# Altium integrated library CDE_Library.IntLib: 6171 symbols (part 13 of 25)
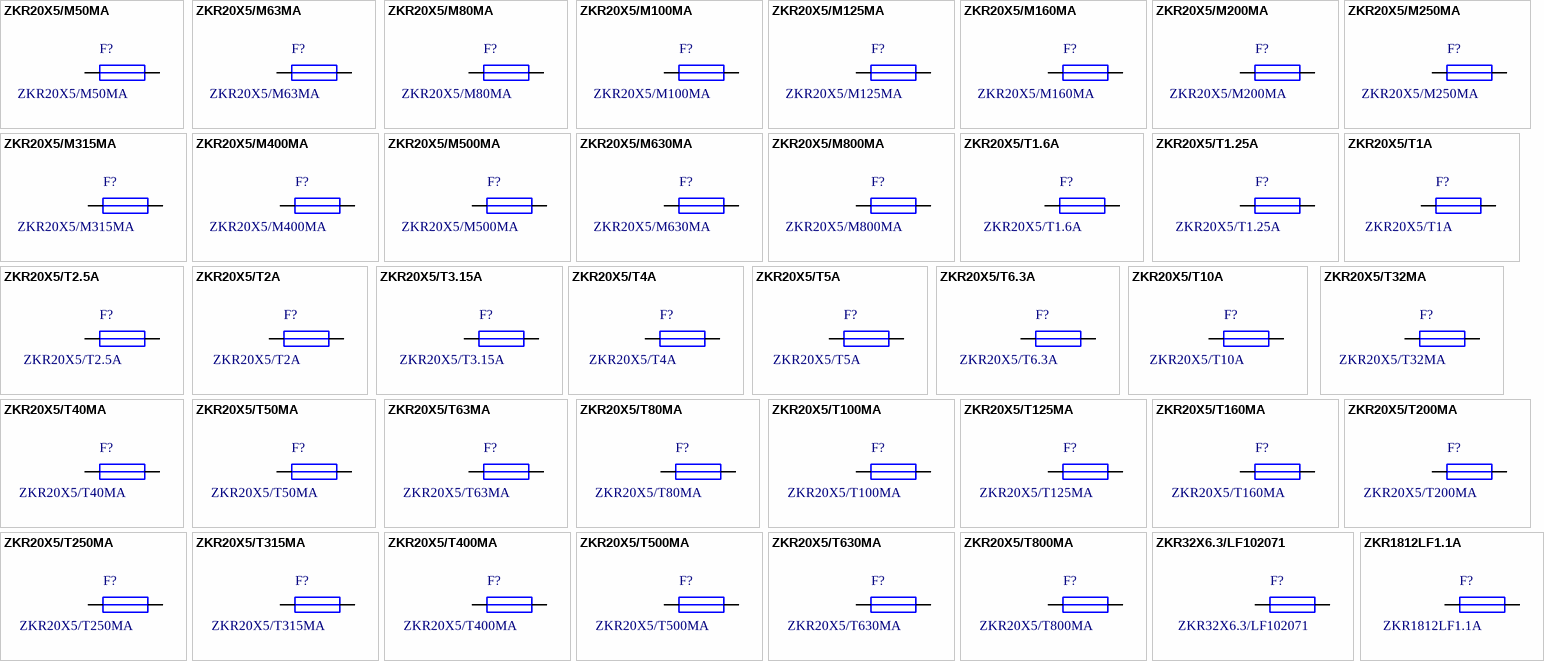
[diagram p269: symbols ZKR20X5/M50MA to ZKR1812LF1.1A]

## ZKR20X5/T50MA
designator F?
zekering 20x5mm, houder uit één stuk, T50mA; Part Number: ZKR20X5/T50MA; Component Kind: Standard; Component Type: Standard; Designator: ZKR20X5/T50MA; Footprint: zkr 20x5; Library Reference: ZKR20X5/T50MA; Pin Count: 2
footprint zkr 20x5
pins: 1, 2

## ZKR20X5/T63MA
designator F?
zekering 20x5mm, houder uit één stuk, T63mA; Part Number: ZKR20X5/T63MA; Component Kind: Standard; Component Type: Standard; Designator: ZKR20X5/T63MA; Footprint: zkr 20x5; Library Reference: ZKR20X5/T63MA; Pin Count: 2
footprint zkr 20x5
pins: 1, 2

## ZKR20X5/T80MA
designator F?
zekering 20x5mm, houder uit één stuk, T80mA; Part Number: ZKR20X5/T80MA; Component Kind: Standard; Component Type: Standard; Designator: ZKR20X5/T80MA; Footprint: zkr 20x5; Library Reference: ZKR20X5/T80MA; Pin Count: 2
footprint zkr 20x5
pins: 1, 2

## ZKR20X5/T100MA
designator F?
zekering 20x5mm, houder uit één stuk, T100mA; Part Number: ZKR20X5/T100MA; Component Kind: Standard; Component Type: Standard; Designator: ZKR20X5/T100MA; Footprint: zkr 20x5; Library Reference: ZKR20X5/T100MA; Pin Count: 2
footprint zkr 20x5
pins: 1, 2

## ZKR20X5/T125MA
designator F?
zekering 20x5mm, houder uit één stuk, T125mA; Part Number: ZKR20X5/T125MA; Component Kind: Standard; Component Type: Standard; Designator: ZKR20X5/T125MA; Footprint: zkr 20x5; Library Reference: ZKR20X5/T125MA; Pin Count: 2
footprint zkr 20x5
pins: 1, 2

## ZKR20X5/T160MA
designator F?
zekering 20x5mm, houder uit één stuk, T160mA; Part Number: ZKR20X5/T160MA; Component Kind: Standard; Component Type: Standard; Designator: ZKR20X5/T160MA; Footprint: zkr 20x5; Library Reference: ZKR20X5/T160MA; Pin Count: 2
footprint zkr 20x5
pins: 1, 2

## ZKR20X5/T200MA
designator F?
zekering 20x5mm, houder uit één stuk, T200mA; Part Number: ZKR20X5/T200MA; Component Kind: Standard; Component Type: Standard; Designator: ZKR20X5/T200MA; Footprint: zkr 20x5; Library Reference: ZKR20X5/T200MA; Pin Count: 2
footprint zkr 20x5
pins: 1, 2

## ZKR20X5/T250MA
designator F?
zekering 20x5mm, houder uit één stuk, T250mA; Part Number: ZKR20X5/T250MA; Component Kind: Standard; Component Type: Standard; Designator: ZKR20X5/T250MA; Footprint: zkr 20x5; Library Reference: ZKR20X5/T250MA; Pin Count: 2
footprint zkr 20x5
pins: 1, 2

## ZKR20X5/T315MA
designator F?
zekering 20x5mm, houder uit één stuk, T315mA; Part Number: ZKR20X5/T315MA; Component Kind: Standard; Component Type: Standard; Designator: ZKR20X5/T315MA; Footprint: zkr 20x5; Library Reference: ZKR20X5/T315MA; Pin Count: 2
footprint zkr 20x5
pins: 1, 2

## ZKR20X5/T400MA
designator F?
zekering 20x5mm, houder uit één stuk, T400mA; Part Number: ZKR20X5/T400MA; Component Kind: Standard; Component Type: Standard; Designator: ZKR20X5/T400MA; Footprint: zkr 20x5; Library Reference: ZKR20X5/T400MA; Pin Count: 2
footprint zkr 20x5
pins: 1, 2

## ZKR20X5/T500MA
designator F?
zekering 20x5mm, houder uit één stuk, T500mA; Part Number: ZKR20X5/T500MA; Component Kind: Standard; Component Type: Standard; Designator: ZKR20X5/T500MA; Footprint: zkr 20x5; Library Reference: ZKR20X5/T500MA; Pin Count: 2
footprint zkr 20x5
pins: 1, 2

## ZKR20X5/T630MA
designator F?
zekering 20x5mm, houder uit één stuk, T630mA; Part Number: ZKR20X5/T630MA; Component Kind: Standard; Component Type: Standard; Designator: ZKR20X5/T630MA; Footprint: zkr 20x5; Library Reference: ZKR20X5/T630MA; Pin Count: 2
footprint zkr 20x5
pins: 1, 2

## ZKR20X5/T800MA
designator F?
zekering 20x5mm, houder uit één stuk, T800mA; Part Number: ZKR20X5/T800MA; Component Kind: Standard; Component Type: Standard; Designator: ZKR20X5/T800MA; Footprint: zkr 20x5; Library Reference: ZKR20X5/T800MA; Pin Count: 2
footprint zkr 20x5
pins: 1, 2

## ZKR32X6.3/LF102071
designator F?
zekering 32x6.3, 2-delige houder, Littlefuse Clip 102071
footprint zkr 32x6.3 (Littlefuse 102071)
pins: 1, 2

## ZKR1812LF1.1A
designator F?
Littlefuse 1812 PTC 1.1A holding current; Part Number: ZKR1812LF1.1A; Component Kind: Standard; Component Type: Standard; Designator: ZKR1812LF1.1A; Footprint: smd C1812; Library Reference: ZKR1812LF1.1A; Pin Count: 2
footprint smd C1812
pins: 1, 2

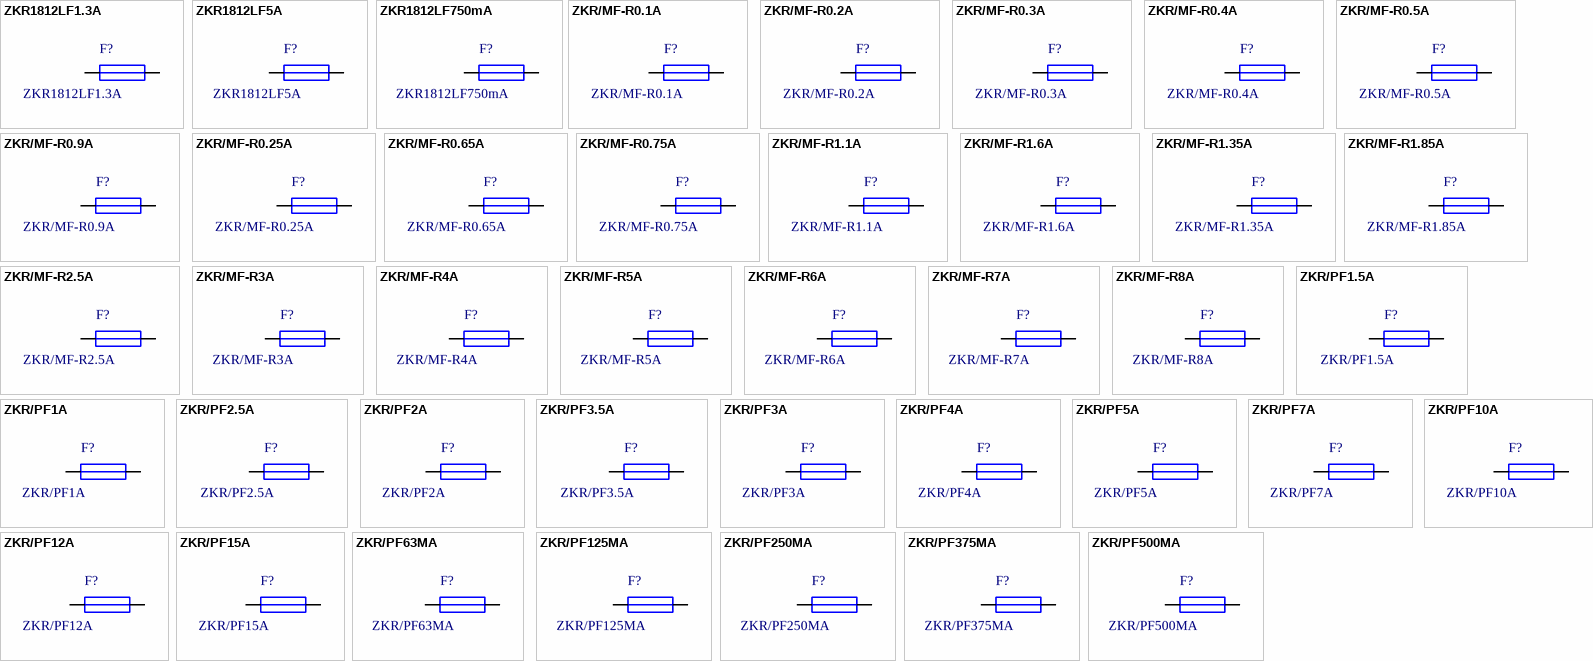
[diagram p130: symbols ZKR1812LF1.3A to ZKR/PF500MA]

## ZKR1812LF1.3A
designator F?
Littlefuse 1812 PTC 750mA holding current; Part Number: ZKR1812LF1.3A; Component Kind: Standard; Component Type: Standard; Designator: ZKR1812LF1.3A; Footprint: smd C1812; Library Reference: ZKR1812LF1.3A; Pin Count: 2
footprint smd C1812
pins: 1, 2

## ZKR1812LF5A
designator F?
Littlefuse 1812 PTC 5A holding current; Part Number: ZKR1812LF5A; Component Kind: Standard; Component Type: Standard; Designator: ZKR1812LF5A; Footprint: smd C1812; Library Reference: ZKR1812LF5A; Pin Count: 2
footprint smd C1812
pins: 1, 2

## ZKR1812LF750mA
designator F?
Littlefuse 1812 PTC 750mA holding current
footprint smd C1812
pins: 1, 2

## ZKR/MF-R0.1A
designator F?
zekering zelfherstellend, Multifuse Bourns MF-R010
footprint zkr multifuse (Bourns MF-R)
pins: 1, 2

## ZKR/MF-R0.2A
designator F?
zekering zelfherstellend, Multifuse Bourns MF-R020; Part Number: ZKR/MF-R0.2A; Component Kind: Standard; Component Type: Standard; Designator: ZKR/MF-R0.2A; Footprint: zkr multifuse (Bourns MF-R); Library Reference: ZKR/MF-R0.2A; Pin Count: 2
footprint zkr multifuse (Bourns MF-R)
pins: 1, 2

## ZKR/MF-R0.3A
designator F?
zekering zelfherstellend, Multifuse Bourns MF-R030; Part Number: ZKR/MF-R0.3A; Component Kind: Standard; Component Type: Standard; Designator: ZKR/MF-R0.3A; Footprint: zkr multifuse (Bourns MF-R); Library Reference: ZKR/MF-R0.3A; Pin Count: 2
footprint zkr multifuse (Bourns MF-R)
pins: 1, 2

## ZKR/MF-R0.4A
designator F?
zekering zelfherstellend, Multifuse Bourns MF-R040; Part Number: ZKR/MF-R0.4A; Component Kind: Standard; Component Type: Standard; Designator: ZKR/MF-R0.4A; Footprint: zkr multifuse (Bourns MF-R); Library Reference: ZKR/MF-R0.4A; Pin Count: 2
footprint zkr multifuse (Bourns MF-R)
pins: 1, 2

## ZKR/MF-R0.5A
designator F?
zekering zelfherstellend, Multifuse Bourns MF-R050; Part Number: ZKR/MF-R0.5A; Component Kind: Standard; Component Type: Standard; Designator: ZKR/MF-R0.5A; Footprint: zkr multifuse (Bourns MF-R); Library Reference: ZKR/MF-R0.5A; Pin Count: 2
footprint zkr multifuse (Bourns MF-R)
pins: 1, 2

## ZKR/MF-R0.9A
designator F?
zekering zelfherstellend, Multifuse Bourns MF-R090; Part Number: ZKR/MF-R0.9A; Component Kind: Standard; Component Type: Standard; Designator: ZKR/MF-R0.9A; Footprint: zkr multifuse (Bourns MF-R); Library Reference: ZKR/MF-R0.9A; Pin Count: 2
footprint zkr multifuse (Bourns MF-R)
pins: 1, 2

## ZKR/MF-R0.25A
designator F?
zekering zelfherstellend, Multifuse Bourns MF-R025; Part Number: ZKR/MF-R0.25A; Component Kind: Standard; Component Type: Standard; Designator: ZKR/MF-R0.25A; Footprint: zkr multifuse (Bourns MF-R); Library Reference: ZKR/MF-R0.25A; Pin Count: 2
footprint zkr multifuse (Bourns MF-R)
pins: 1, 2

## ZKR/MF-R0.65A
designator F?
zekering zelfherstellend, Multifuse Bourns MF-R065; Part Number: ZKR/MF-R0.65A; Component Kind: Standard; Component Type: Standard; Designator: ZKR/MF-R0.65A; Footprint: zkr multifuse (Bourns MF-R); Library Reference: ZKR/MF-R0.65A; Pin Count: 2
footprint zkr multifuse (Bourns MF-R)
pins: 1, 2

## ZKR/MF-R0.75A
designator F?
zekering zelfherstellend, Multifuse Bourns MF-R075; Part Number: ZKR/MF-R0.75A; Component Kind: Standard; Component Type: Standard; Designator: ZKR/MF-R0.75A; Footprint: zkr multifuse (Bourns MF-R); Library Reference: ZKR/MF-R0.75A; Pin Count: 2
footprint zkr multifuse (Bourns MF-R)
pins: 1, 2

## ZKR/MF-R1.1A
designator F?
zekering zelfherstellend, Multifuse Bourns MF-R110; Part Number: ZKR/MF-R1.1A; Component Kind: Standard; Component Type: Standard; Designator: ZKR/MF-R1.1A; Footprint: zkr multifuse (Bourns MF-R); Library Reference: ZKR/MF-R1.1A; Pin Count: 2
footprint zkr multifuse (Bourns MF-R)
pins: 1, 2

## ZKR/MF-R1.6A
designator F?
zekering zelfherstellend, Multifuse Bourns MF-R160; Part Number: ZKR/MF-R1.6A; Component Kind: Standard; Component Type: Standard; Designator: ZKR/MF-R1.6A; Footprint: zkr multifuse (Bourns MF-R); Library Reference: ZKR/MF-R1.6A; Pin Count: 2
footprint zkr multifuse (Bourns MF-R)
pins: 1, 2

## ZKR/MF-R1.35A
designator F?
zekering zelfherstellend, Multifuse Bourns MF-R135; Part Number: ZKR/MF-R1.35A; Component Kind: Standard; Component Type: Standard; Designator: ZKR/MF-R1.35A; Footprint: zkr multifuse (Bourns MF-R); Library Reference: ZKR/MF-R1.35A; Pin Count: 2
footprint zkr multifuse (Bourns MF-R)
pins: 1, 2

## ZKR/MF-R1.85A
designator F?
zekering zelfherstellend, Multifuse Bourns MF-R185; Part Number: ZKR/MF-R1.85A; Component Kind: Standard; Component Type: Standard; Designator: ZKR/MF-R1.85A; Footprint: zkr multifuse (Bourns MF-R); Library Reference: ZKR/MF-R1.85A; Pin Count: 2
footprint zkr multifuse (Bourns MF-R)
pins: 1, 2

## ZKR/MF-R2.5A
designator F?
zekering zelfherstellend, Multifuse Bourns MF-R250; Part Number: ZKR/MF-R2.5A; Component Kind: Standard; Component Type: Standard; Designator: ZKR/MF-R2.5A; Footprint: zkr multifuse (Bourns MF-R); Library Reference: ZKR/MF-R2.5A; Pin Count: 2
footprint zkr multifuse (Bourns MF-R)
pins: 1, 2

## ZKR/MF-R3A
designator F?
zekering zelfherstellend, Multifuse Bourns MF-R300; Part Number: ZKR/MF-R3A; Component Kind: Standard; Component Type: Standard; Designator: ZKR/MF-R3A; Footprint: zkr multifuse (Bourns MF-R); Library Reference: ZKR/MF-R3A; Pin Count: 2
footprint zkr multifuse (Bourns MF-R)
pins: 1, 2

## ZKR/MF-R4A
designator F?
zekering zelfherstellend, Multifuse Bourns MF-R400; Part Number: ZKR/MF-R4A; Component Kind: Standard; Component Type: Standard; Designator: ZKR/MF-R4A; Footprint: zkr multifuse (Bourns MF-R); Library Reference: ZKR/MF-R4A; Pin Count: 2
footprint zkr multifuse (Bourns MF-R)
pins: 1, 2

## ZKR/MF-R5A
designator F?
zekering zelfherstellend, Multifuse Bourns MF-R500; Part Number: ZKR/MF-R5A; Component Kind: Standard; Component Type: Standard; Designator: ZKR/MF-R5A; Footprint: zkr multifuse (Bourns MF-R); Library Reference: ZKR/MF-R5A; Pin Count: 2
footprint zkr multifuse (Bourns MF-R)
pins: 1, 2

## ZKR/MF-R6A
designator F?
zekering zelfherstellend, Multifuse Bourns MF-R600; Part Number: ZKR/MF-R6A; Component Kind: Standard; Component Type: Standard; Designator: ZKR/MF-R6A; Footprint: zkr multifuse (Bourns MF-R); Library Reference: ZKR/MF-R6A; Pin Count: 2
footprint zkr multifuse (Bourns MF-R)
pins: 1, 2

## ZKR/MF-R7A
designator F?
zekering zelfherstellend, Multifuse Bourns MF-R700; Part Number: ZKR/MF-R7A; Component Kind: Standard; Component Type: Standard; Designator: ZKR/MF-R7A; Footprint: zkr multifuse (Bourns MF-R); Library Reference: ZKR/MF-R7A; Pin Count: 2
footprint zkr multifuse (Bourns MF-R)
pins: 1, 2

## ZKR/MF-R8A
designator F?
zekering zelfherstellend, Multifuse Bourns MF-R800; Part Number: ZKR/MF-R8A; Component Kind: Standard; Component Type: Standard; Designator: ZKR/MF-R8A; Footprint: zkr multifuse (Bourns MF-R); Library Reference: ZKR/MF-R8A; Pin Count: 2
footprint zkr multifuse (Bourns MF-R)
pins: 1, 2

## ZKR/PF1.5A
designator F?
zekering subminiature, Wickmann picofuse 275, 1.5A; Part Number: ZKR/PF1.5A; Component Kind: Standard; Component Type: Standard; Designator: ZKR/PF1.5A; Footprint: zkr submin (Wickmann picofuse); Library Reference: ZKR/PF1.5A; Pin Count: 2
footprint zkr submin (Wickmann picofuse)
pins: 1, 2

## ZKR/PF1A
designator F?
zekering subminiature, Wickmann picofuse 275, 1A; Part Number: ZKR/PF1A; Component Kind: Standard; Component Type: Standard; Designator: ZKR/PF1A; Footprint: zkr submin (Wickmann picofuse); Library Reference: ZKR/PF1A; Pin Count: 2
footprint zkr submin (Wickmann picofuse)
pins: 1, 2

## ZKR/PF2.5A
designator F?
zekering subminiature, Wickmann picofuse 275, 2.5A; Part Number: ZKR/PF2.5A; Component Kind: Standard; Component Type: Standard; Designator: ZKR/PF2.5A; Footprint: zkr submin (Wickmann picofuse); Library Reference: ZKR/PF2.5A; Pin Count: 2
footprint zkr submin (Wickmann picofuse)
pins: 1, 2

## ZKR/PF2A
designator F?
zekering subminiature, Wickmann picofuse 275, 2A; Part Number: ZKR/PF2A; Component Kind: Standard; Component Type: Standard; Designator: ZKR/PF2A; Footprint: zkr submin (Wickmann picofuse); Library Reference: ZKR/PF2A; Pin Count: 2
footprint zkr submin (Wickmann picofuse)
pins: 1, 2

## ZKR/PF3.5A
designator F?
zekering subminiature, Wickmann picofuse 275, 3.5A; Part Number: ZKR/PF3.5A; Component Kind: Standard; Component Type: Standard; Designator: ZKR/PF3.5A; Footprint: zkr submin (Wickmann picofuse); Library Reference: ZKR/PF3.5A; Pin Count: 2
footprint zkr submin (Wickmann picofuse)
pins: 1, 2

## ZKR/PF3A
designator F?
zekering subminiature, Wickmann picofuse 275, 3A; Part Number: ZKR/PF3A; Component Kind: Standard; Component Type: Standard; Designator: ZKR/PF3A; Footprint: zkr submin (Wickmann picofuse); Library Reference: ZKR/PF3A; Pin Count: 2
footprint zkr submin (Wickmann picofuse)
pins: 1, 2

## ZKR/PF4A
designator F?
zekering subminiature, Wickmann picofuse 275, 4A; Part Number: ZKR/PF4A; Component Kind: Standard; Component Type: Standard; Designator: ZKR/PF4A; Footprint: zkr submin (Wickmann picofuse); Library Reference: ZKR/PF4A; Pin Count: 2
footprint zkr submin (Wickmann picofuse)
pins: 1, 2

## ZKR/PF5A
designator F?
zekering subminiature, Wickmann picofuse 275, 5A; Part Number: ZKR/PF5A; Component Kind: Standard; Component Type: Standard; Designator: ZKR/PF5A; Footprint: zkr submin (Wickmann picofuse); Library Reference: ZKR/PF5A; Pin Count: 2
footprint zkr submin (Wickmann picofuse)
pins: 1, 2

## ZKR/PF7A
designator F?
zekering subminiature, Wickmann picofuse 275, 7A; Part Number: ZKR/PF7A; Component Kind: Standard; Component Type: Standard; Designator: ZKR/PF7A; Footprint: zkr submin (Wickmann picofuse); Library Reference: ZKR/PF7A; Pin Count: 2
footprint zkr submin (Wickmann picofuse)
pins: 1, 2

## ZKR/PF10A
designator F?
zekering subminiature, Wickmann picofuse 275, 10A; Part Number: ZKR/PF10A; Component Kind: Standard; Component Type: Standard; Designator: ZKR/PF10A; Footprint: zkr submin (Wickmann picofuse); Library Reference: ZKR/PF10A; Pin Count: 2
footprint zkr submin (Wickmann picofuse)
pins: 1, 2

## ZKR/PF12A
designator F?
zekering subminiature, Wickmann picofuse 275, 12A; Part Number: ZKR/PF12A; Component Kind: Standard; Component Type: Standard; Designator: ZKR/PF12A; Footprint: zkr submin (Wickmann picofuse); Library Reference: ZKR/PF12A; Pin Count: 2
footprint zkr submin (Wickmann picofuse)
pins: 1, 2

## ZKR/PF15A
designator F?
zekering subminiature, Wickmann picofuse 275, 15A; Part Number: ZKR/PF15A; Component Kind: Standard; Component Type: Standard; Designator: ZKR/PF15A; Footprint: zkr submin (Wickmann picofuse); Library Reference: ZKR/PF15A; Pin Count: 2
footprint zkr submin (Wickmann picofuse)
pins: 1, 2

## ZKR/PF63MA
designator F?
zekering subminiature, Wickmann picofuse 275, 63mA
footprint zkr submin (Wickmann picofuse)
pins: 1, 2

## ZKR/PF125MA
designator F?
zekering subminiature, Wickmann picofuse 275, 125mA; Part Number: ZKR/PF125MA; Component Kind: Standard; Component Type: Standard; Designator: ZKR/PF125MA; Footprint: zkr submin (Wickmann picofuse); Library Reference: ZKR/PF125MA; Pin Count: 2
footprint zkr submin (Wickmann picofuse)
pins: 1, 2

## ZKR/PF250MA
designator F?
zekering subminiature, Wickmann picofuse 275, 250mA; Part Number: ZKR/PF250MA; Component Kind: Standard; Component Type: Standard; Designator: ZKR/PF250MA; Footprint: zkr submin (Wickmann picofuse); Library Reference: ZKR/PF250MA; Pin Count: 2
footprint zkr submin (Wickmann picofuse)
pins: 1, 2

## ZKR/PF375MA
designator F?
zekering subminiature, Wickmann picofuse 275, 375mA; Part Number: ZKR/PF375MA; Component Kind: Standard; Component Type: Standard; Designator: ZKR/PF375MA; Footprint: zkr submin (Wickmann picofuse); Library Reference: ZKR/PF375MA; Pin Count: 2
footprint zkr submin (Wickmann picofuse)
pins: 1, 2

## ZKR/PF500MA
designator F?
zekering subminiature, Wickmann picofuse 275, 500mA; Part Number: ZKR/PF500MA; Component Kind: Standard; Component Type: Standard; Designator: ZKR/PF500MA; Footprint: zkr submin (Wickmann picofuse); Library Reference: ZKR/PF500MA; Pin Count: 2
footprint zkr submin (Wickmann picofuse)
pins: 1, 2

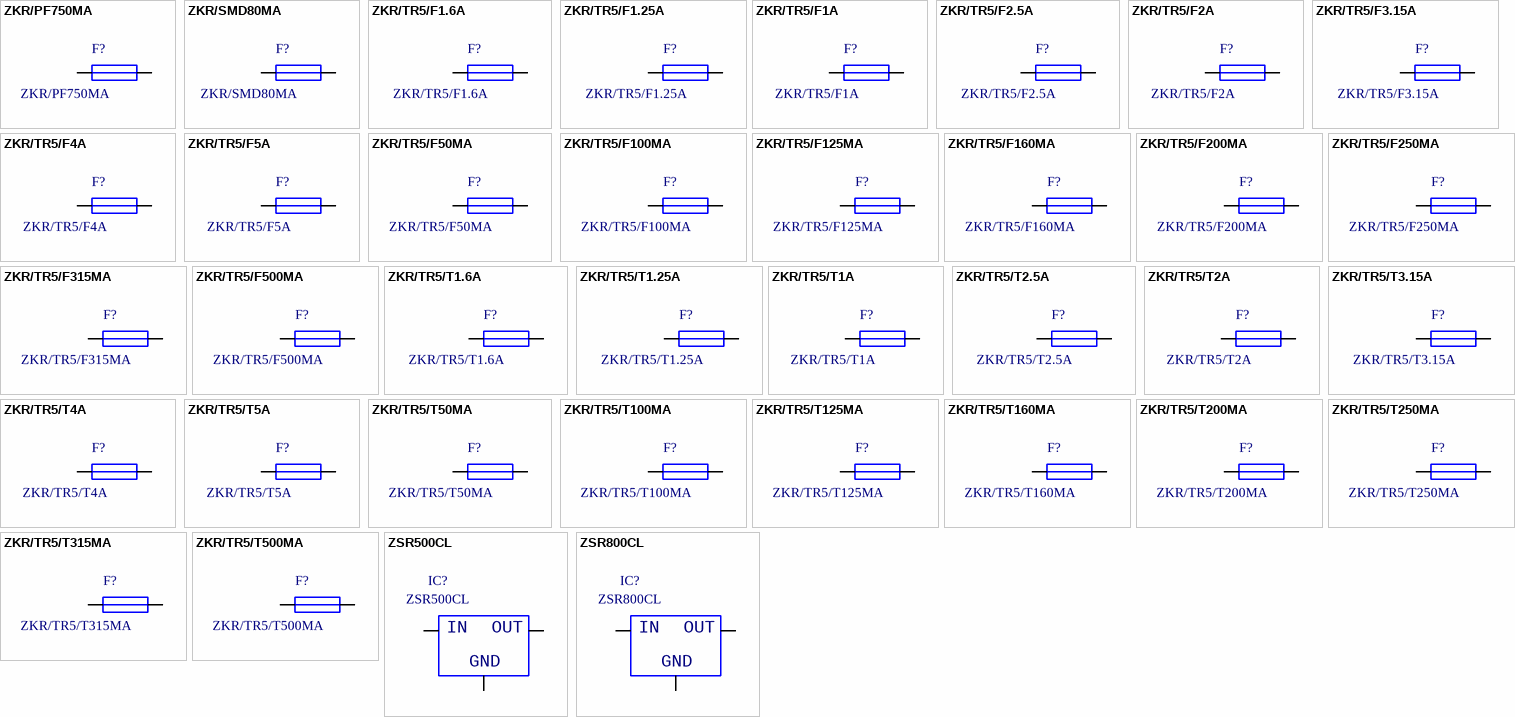
[diagram p131: symbols ZKR/PF750MA to ZSR800CL]

## ZKR/PF750MA
designator F?
zekering subminiature, Wickmann picofuse 275, 750mA; Part Number: ZKR/PF750MA; Component Kind: Standard; Component Type: Standard; Designator: ZKR/PF750MA; Footprint: zkr submin (Wickmann picofuse); Library Reference: ZKR/PF750MA; Pin Count: 2
footprint zkr submin (Wickmann picofuse)
pins: 1, 2

## ZKR/SMD80MA
designator F?
zekering smd, Shurter UMZ 250, 80mA; Part Number: ZKR/PF1A; Component Kind: Standard; Component Type: Standard; Designator: ZKR/PF1A; Footprint: zkr submin (Wickmann picofuse); Library Reference: ZKR/PF1A; Pin Count: 2
footprint ZKR/SMD UMZ250 (Zekering Schurter UMZ 250)
pins: 1, 2

## ZKR/TR5/F1.6A
designator F?
zekering subminiature, TR5 verpakking, F1.6A; Part Number: ZKR/TR5/F1.6A; Component Kind: Standard; Component Type: Standard; Designator: ZKR/TR5/F1.6A; Footprint: zkr submin (TR5); Library Reference: ZKR/TR5/F1.6A; Pin Count: 2
footprint zkr submin (TR5)
pins: 1, 2

## ZKR/TR5/F1.25A
designator F?
zekering subminiature, TR5 verpakking, F1.25A; Part Number: ZKR/TR5/F1.25A; Component Kind: Standard; Component Type: Standard; Designator: ZKR/TR5/F1.25A; Footprint: zkr submin (TR5); Library Reference: ZKR/TR5/F1.25A; Pin Count: 2
footprint zkr submin (TR5)
pins: 1, 2

## ZKR/TR5/F1A
designator F?
zekering subminiature, TR5 verpakking, F1A; Part Number: ZKR/TR5/F1A; Component Kind: Standard; Component Type: Standard; Designator: ZKR/TR5/F1A; Footprint: zkr submin (TR5); Library Reference: ZKR/TR5/F1A; Pin Count: 2
footprint zkr submin (TR5)
pins: 1, 2

## ZKR/TR5/F2.5A
designator F?
zekering subminiature, TR5 verpakking, F2.5A; Part Number: ZKR/TR5/F2.5A; Component Kind: Standard; Component Type: Standard; Designator: ZKR/TR5/F2.5A; Footprint: zkr submin (TR5); Library Reference: ZKR/TR5/F2.5A; Pin Count: 2
footprint zkr submin (TR5)
pins: 1, 2

## ZKR/TR5/F2A
designator F?
zekering subminiature, TR5 verpakking, F2A; Part Number: ZKR/TR5/F2A; Component Kind: Standard; Component Type: Standard; Designator: ZKR/TR5/F2A; Footprint: zkr submin (TR5); Library Reference: ZKR/TR5/F2A; Pin Count: 2
footprint zkr submin (TR5)
pins: 1, 2

## ZKR/TR5/F3.15A
designator F?
zekering subminiature, TR5 verpakking, F3.15A; Part Number: ZKR/TR5/F3.15A; Component Kind: Standard; Component Type: Standard; Designator: ZKR/TR5/F3.15A; Footprint: zkr submin (TR5); Library Reference: ZKR/TR5/F3.15A; Pin Count: 2
footprint zkr submin (TR5)
pins: 1, 2

## ZKR/TR5/F4A
designator F?
zekering subminiature, TR5 verpakking, F4A; Part Number: ZKR/TR5/F4A; Component Kind: Standard; Component Type: Standard; Designator: ZKR/TR5/F4A; Footprint: zkr submin (TR5); Library Reference: ZKR/TR5/F4A; Pin Count: 2
footprint zkr submin (TR5)
pins: 1, 2

## ZKR/TR5/F5A
designator F?
zekering subminiature, TR5 verpakking, F5A; Part Number: ZKR/TR5/F5A; Component Kind: Standard; Component Type: Standard; Designator: ZKR/TR5/F5A; Footprint: zkr submin (TR5); Library Reference: ZKR/TR5/F5A; Pin Count: 2
footprint zkr submin (TR5)
pins: 1, 2

## ZKR/TR5/F50MA
designator F?
zekering subminiature, TR5 verpakking, F50mA
footprint zkr submin (TR5)
pins: 1, 2

## ZKR/TR5/F100MA
designator F?
zekering subminiature, TR5 verpakking, F100mA; Part Number: ZKR/TR5/F100MA; Component Kind: Standard; Component Type: Standard; Designator: ZKR/TR5/F100MA; Footprint: zkr submin (TR5); Library Reference: ZKR/TR5/F100MA; Pin Count: 2
footprint zkr submin (TR5)
pins: 1, 2

## ZKR/TR5/F125MA
designator F?
zekering subminiature, TR5 verpakking, F125mA; Part Number: ZKR/TR5/F125MA; Component Kind: Standard; Component Type: Standard; Designator: ZKR/TR5/F125MA; Footprint: zkr submin (TR5); Library Reference: ZKR/TR5/F125MA; Pin Count: 2
footprint zkr submin (TR5)
pins: 1, 2

## ZKR/TR5/F160MA
designator F?
zekering subminiature, TR5 verpakking, F160mA; Part Number: ZKR/TR5/F160MA; Component Kind: Standard; Component Type: Standard; Designator: ZKR/TR5/F160MA; Footprint: zkr submin (TR5); Library Reference: ZKR/TR5/F160MA; Pin Count: 2
footprint zkr submin (TR5)
pins: 1, 2

## ZKR/TR5/F200MA
designator F?
zekering subminiature, TR5 verpakking, F200mA; Part Number: ZKR/TR5/F200MA; Component Kind: Standard; Component Type: Standard; Designator: ZKR/TR5/F200MA; Footprint: zkr submin (TR5); Library Reference: ZKR/TR5/F200MA; Pin Count: 2
footprint zkr submin (TR5)
pins: 1, 2

## ZKR/TR5/F250MA
designator F?
zekering subminiature, TR5 verpakking, F250mA; Part Number: ZKR/TR5/F250MA; Component Kind: Standard; Component Type: Standard; Designator: ZKR/TR5/F250MA; Footprint: zkr submin (TR5); Library Reference: ZKR/TR5/F250MA; Pin Count: 2
footprint zkr submin (TR5)
pins: 1, 2

## ZKR/TR5/F315MA
designator F?
zekering subminiature, TR5 verpakking, F315mA; Part Number: ZKR/TR5/F315MA; Component Kind: Standard; Component Type: Standard; Designator: ZKR/TR5/F315MA; Footprint: zkr submin (TR5); Library Reference: ZKR/TR5/F315MA; Pin Count: 2
footprint zkr submin (TR5)
pins: 1, 2

## ZKR/TR5/F500MA
designator F?
zekering subminiature, TR5 verpakking, F500mA; Part Number: ZKR/TR5/F500MA; Component Kind: Standard; Component Type: Standard; Designator: ZKR/TR5/F500MA; Footprint: zkr submin (TR5); Library Reference: ZKR/TR5/F500MA; Pin Count: 2
footprint zkr submin (TR5)
pins: 1, 2

## ZKR/TR5/T1.6A
designator F?
zekering subminiature, TR5 verpakking, T1.6A; Part Number: ZKR/TR5/T1.6A; Component Kind: Standard; Component Type: Standard; Designator: ZKR/TR5/T1.6A; Footprint: zkr submin (TR5); Library Reference: ZKR/TR5/T1.6A; Pin Count: 2
footprint zkr submin (TR5)
pins: 1, 2

## ZKR/TR5/T1.25A
designator F?
zekering subminiature, TR5 verpakking, T1.25A; Part Number: ZKR/TR5/T1.25A; Component Kind: Standard; Component Type: Standard; Designator: ZKR/TR5/T1.25A; Footprint: zkr submin (TR5); Library Reference: ZKR/TR5/T1.25A; Pin Count: 2
footprint zkr submin (TR5)
pins: 1, 2

## ZKR/TR5/T1A
designator F?
zekering subminiature, TR5 verpakking, T1A; Part Number: ZKR/TR5/T1A; Component Kind: Standard; Component Type: Standard; Designator: ZKR/TR5/T1A; Footprint: zkr submin (TR5); Library Reference: ZKR/TR5/T1A; Pin Count: 2
footprint zkr submin (TR5)
pins: 1, 2

## ZKR/TR5/T2.5A
designator F?
zekering subminiature, TR5 verpakking, T2.5A; Part Number: ZKR/TR5/T2.5A; Component Kind: Standard; Component Type: Standard; Designator: ZKR/TR5/T2.5A; Footprint: zkr submin (TR5); Library Reference: ZKR/TR5/T2.5A; Pin Count: 2
footprint zkr submin (TR5)
pins: 1, 2

## ZKR/TR5/T2A
designator F?
zekering subminiature, TR5 verpakking, T2A; Part Number: ZKR/TR5/T2A; Component Kind: Standard; Component Type: Standard; Designator: ZKR/TR5/T2A; Footprint: zkr submin (TR5); Library Reference: ZKR/TR5/T2A; Pin Count: 2
footprint zkr submin (TR5)
pins: 1, 2

## ZKR/TR5/T3.15A
designator F?
zekering subminiature, TR5 verpakking, T3.15A; Part Number: ZKR/TR5/T3.15A; Component Kind: Standard; Component Type: Standard; Designator: ZKR/TR5/T3.15A; Footprint: zkr submin (TR5); Library Reference: ZKR/TR5/T3.15A; Pin Count: 2
footprint zkr submin (TR5)
pins: 1, 2

## ZKR/TR5/T4A
designator F?
zekering subminiature, TR5 verpakking, T4A; Part Number: ZKR/TR5/T4A; Component Kind: Standard; Component Type: Standard; Designator: ZKR/TR5/T4A; Footprint: zkr submin (TR5); Library Reference: ZKR/TR5/T4A; Pin Count: 2
footprint zkr submin (TR5)
pins: 1, 2

## ZKR/TR5/T5A
designator F?
zekering subminiature, TR5 verpakking, T5A; Part Number: ZKR/TR5/T5A; Component Kind: Standard; Component Type: Standard; Designator: ZKR/TR5/T5A; Footprint: zkr submin (TR5); Library Reference: ZKR/TR5/T5A; Pin Count: 2
footprint zkr submin (TR5)
pins: 1, 2

## ZKR/TR5/T50MA
designator F?
zekering subminiature, TR5 verpakking, T50mA; Part Number: ZKR/TR5/T50MA; Component Kind: Standard; Component Type: Standard; Designator: ZKR/TR5/T50MA; Footprint: zkr submin (TR5); Library Reference: ZKR/TR5/T50MA; Pin Count: 2
footprint zkr submin (TR5)
pins: 1, 2

## ZKR/TR5/T100MA
designator F?
zekering subminiature, TR5 verpakking, T100mA; Part Number: ZKR/TR5/T100MA; Component Kind: Standard; Component Type: Standard; Designator: ZKR/TR5/T100MA; Footprint: zkr submin (TR5); Library Reference: ZKR/TR5/T100MA; Pin Count: 2
footprint zkr submin (TR5)
pins: 1, 2

## ZKR/TR5/T125MA
designator F?
zekering subminiature, TR5 verpakking, T125mA; Part Number: ZKR/TR5/T125MA; Component Kind: Standard; Component Type: Standard; Designator: ZKR/TR5/T125MA; Footprint: zkr submin (TR5); Library Reference: ZKR/TR5/T125MA; Pin Count: 2
footprint zkr submin (TR5)
pins: 1, 2

## ZKR/TR5/T160MA
designator F?
zekering subminiature, TR5 verpakking, T160mA; Part Number: ZKR/TR5/T160MA; Component Kind: Standard; Component Type: Standard; Designator: ZKR/TR5/T160MA; Footprint: zkr submin (TR5); Library Reference: ZKR/TR5/T160MA; Pin Count: 2
footprint zkr submin (TR5)
pins: 1, 2

## ZKR/TR5/T200MA
designator F?
zekering subminiature, TR5 verpakking, T200mA; Part Number: ZKR/TR5/T200MA; Component Kind: Standard; Component Type: Standard; Designator: ZKR/TR5/T200MA; Footprint: zkr submin (TR5); Library Reference: ZKR/TR5/T200MA; Pin Count: 2
footprint zkr submin (TR5)
pins: 1, 2

## ZKR/TR5/T250MA
designator F?
zekering subminiature, TR5 verpakking, T250mA; Part Number: ZKR/TR5/T250MA; Component Kind: Standard; Component Type: Standard; Designator: ZKR/TR5/T250MA; Footprint: zkr submin (TR5); Library Reference: ZKR/TR5/T250MA; Pin Count: 2
footprint zkr submin (TR5)
pins: 1, 2

## ZKR/TR5/T315MA
designator F?
zekering subminiature, TR5 verpakking, T315mA; Part Number: ZKR/TR5/T315MA; Component Kind: Standard; Component Type: Standard; Designator: ZKR/TR5/T315MA; Footprint: zkr submin (TR5); Library Reference: ZKR/TR5/T315MA; Pin Count: 2
footprint zkr submin (TR5)
pins: 1, 2

## ZKR/TR5/T500MA
designator F?
zekering subminiature, TR5 verpakking, T500mA; Part Number: ZKR/TR5/T500MA; Component Kind: Standard; Component Type: Standard; Designator: ZKR/TR5/T500MA; Footprint: zkr submin (TR5); Library Reference: ZKR/TR5/T500MA; Pin Count: 2
footprint zkr submin (TR5)
pins: 1, 2

## ZSR500CL
designator IC?
spanningsregelaar +8V/200mA, TO-92; Part Number: ZSR500CL; Component Kind: Standard; Component Type: Standard; Designator: ZSR500CL; Footprint: TO-92; Library Reference: ZSR500CL; Pin Count: 3
footprint TO-92
pins: 1, 2, 3
text: IN; OUT; GND

## ZSR800CL
designator IC?
spanningsregelaar +8V/200mA, TO-92; Part Number: ZSR800CL; Component Kind: Standard; Component Type: Standard; Designator: ZSR800CL; Footprint: TO-92; Library Reference: ZSR800CL; Pin Count: 3
footprint TO-92
pins: 1, 2, 3
text: IN; OUT; GND


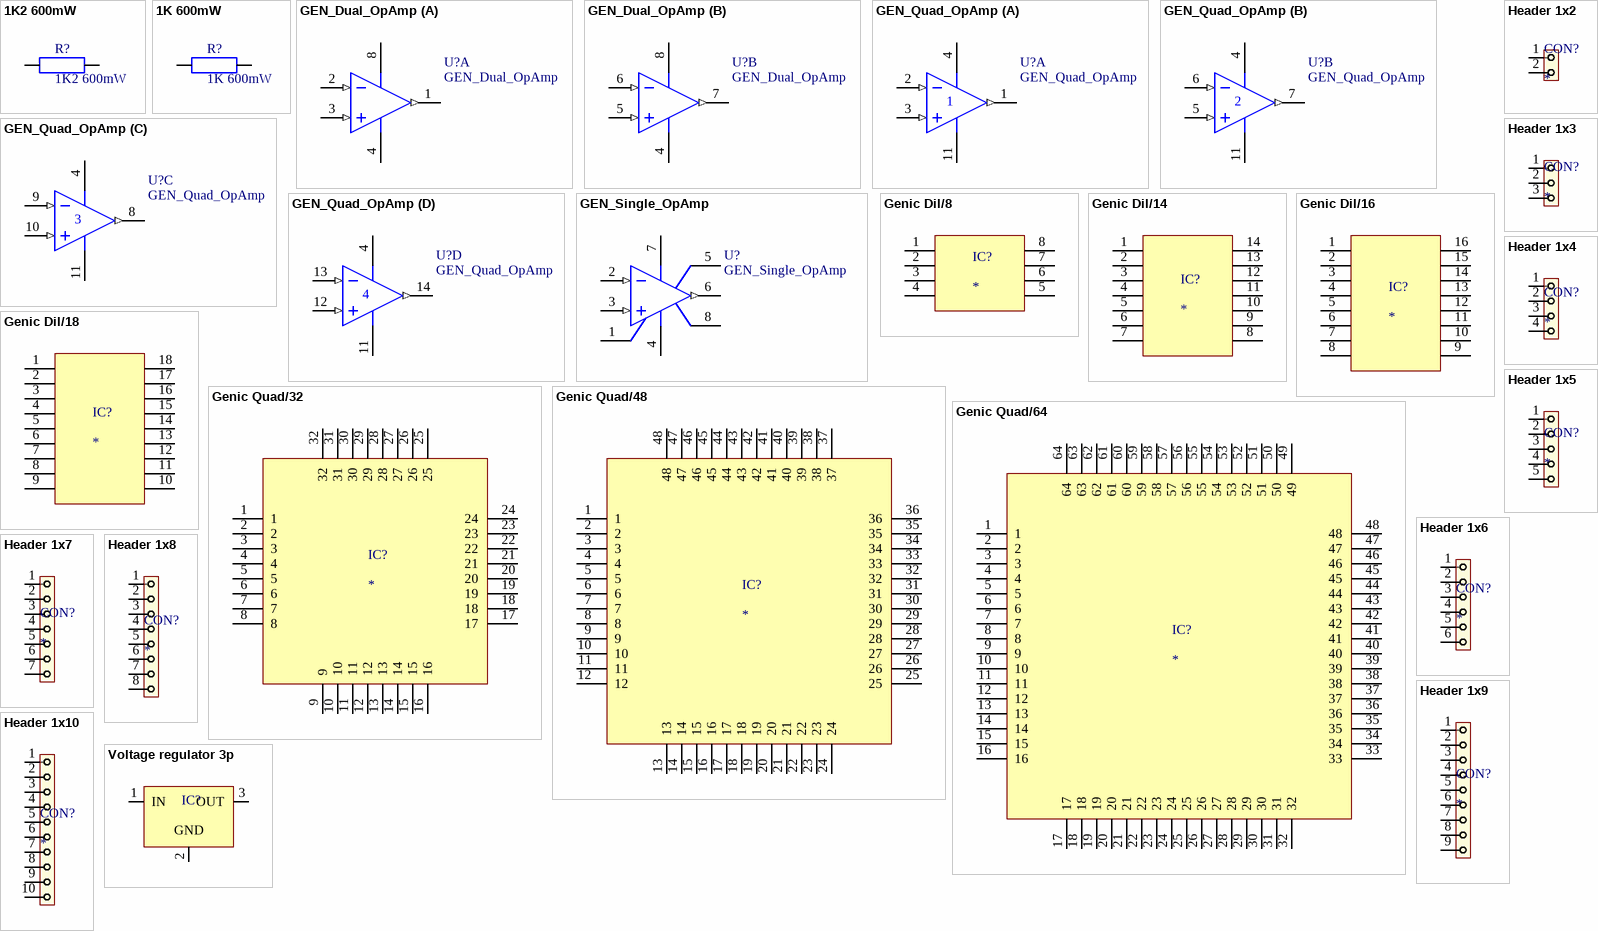
[diagram p132: symbols 1K2 600mW to Voltage regulator 3p]

## 1K2 600mW
designator R?
resistor 600mW
footprint ws 0.6w h
pins: 1, 2

## 1K 600mW
designator R?
resistor 600mW
footprint ws 0.6w h
pins: 1, 2

## GEN_Dual_OpAmp
designator U?
Generic Dual opamp
footprint icv DIP8-300
pins on every part: 4 V- (power), 8 V+ (power)
part A pins: 1 OUT (out), 2 IN- (in), 3 IN+ (in)
part B pins: 5 IN+ (in), 6 IN- (in), 7 OUT (out)

## GEN_Quad_OpAmp
designator U?
Generic quad opamp
footprint icv DIP14-300
pins on every part: 4 V+ (power), 11 V- (power)
part A pins: 1 OUT (out), 2 IN- (in), 3 IN+ (in)
part B pins: 5 IN+ (in), 6 IN- (in), 7 OUT (out)
part C pins: 8 OUT (out), 9 IN- (in), 10 IN+ (in)
part D pins: 12 IN+ (in), 13 IN- (in), 14 OUT (out)

## GEN_Single_OpAmp
designator U?
Generic single opamp
footprint icv DIP8-300
pins: 1 CMPEN 1, 2 IN- (in), 3 IN+ (in), 4 V- (power), 5 NC, 6 OUT (out), 7 V+ (power), 8 CMPEN 2

## Genic Dil/8
designator IC?
pins: 1, 2, 3, 4, 5, 6, 7, 8

## Genic Dil/14
designator IC?
pins: 1, 2, 3, 4, 5, 6, 7, 8, 9, 10, 11, 12, 13, 14

## Genic Dil/16
designator IC?
pins: 1, 2, 3, 4, 5, 6, 7, 8, 9, 10, 11, 12, 13, 14, 15, 16

## Genic Dil/18
designator IC?
pins: 1, 2, 3, 4, 5, 6, 7, 8, 9, 10, 11, 12, 13, 14, 15, 16, 17, 18

## Genic Quad/32
designator IC?
pins: 1, 2, 3, 4, 5, 6, 7, 8, 9, 10, 11, 12, 13, 14, 15, 16, 17, 18, 19, 20, 21, 22, 23, 24, 25, 26, 27, 28, 29, 30, 31, 32

## Genic Quad/48
designator IC?
pins: 1, 2, 3, 4, 5, 6, 7, 8, 9, 10, 11, 12, 13, 14, 15, 16, 17, 18, 19, 20, 21, 22, 23, 24, 25, 26, 27, 28, 29, 30, 31, 32, 33, 34, 35, 36, 37, 38, 39, 40, 41, 42, 43, 44, 45, 46, 47, 48
1 alternate drawing of the same symbol

## Genic Quad/64
designator IC?
pins: 1, 2, 3, 4, 5, 6, 7, 8, 9, 10, 11, 12, 13, 14, 15, 16, 17, 18, 19, 20, 21, 22, 23, 24, 25, 26, 27, 28, 29, 30, 31, 32, 33, 34, 35, 36, 37, 38, 39, 40, 41, 42, 43, 44, 45, 46, 47, 48, 49, 50, 51, 52, 53, 54, 55, 56, 57, 58, 59, 60, 61, 62, 63, 64

## Header 1x2
designator CON?
pins: 1, 2

## Header 1x3
designator CON?
pins: 1, 2, 3

## Header 1x4
designator CON?
pins: 1, 2, 3, 4

## Header 1x5
designator CON?
pins: 1, 2, 3, 4, 5

## Header 1x6
designator CON?
pins: 1, 2, 3, 4, 5, 6

## Header 1x7
designator CON?
pins: 1, 2, 3, 4, 5, 6, 7

## Header 1x8
designator CON?
pins: 1, 2, 3, 4, 5, 6, 7, 8

## Header 1x9
designator CON?
pins: 1, 2, 3, 4, 5, 6, 7, 8, 9

## Header 1x10
designator CON?
pins: 1, 2, 3, 4, 5, 6, 7, 8, 9, 10

## Voltage regulator 3p
designator IC?  (value not drawn)
pins: 1 IN, 2 GND, 3 OUT


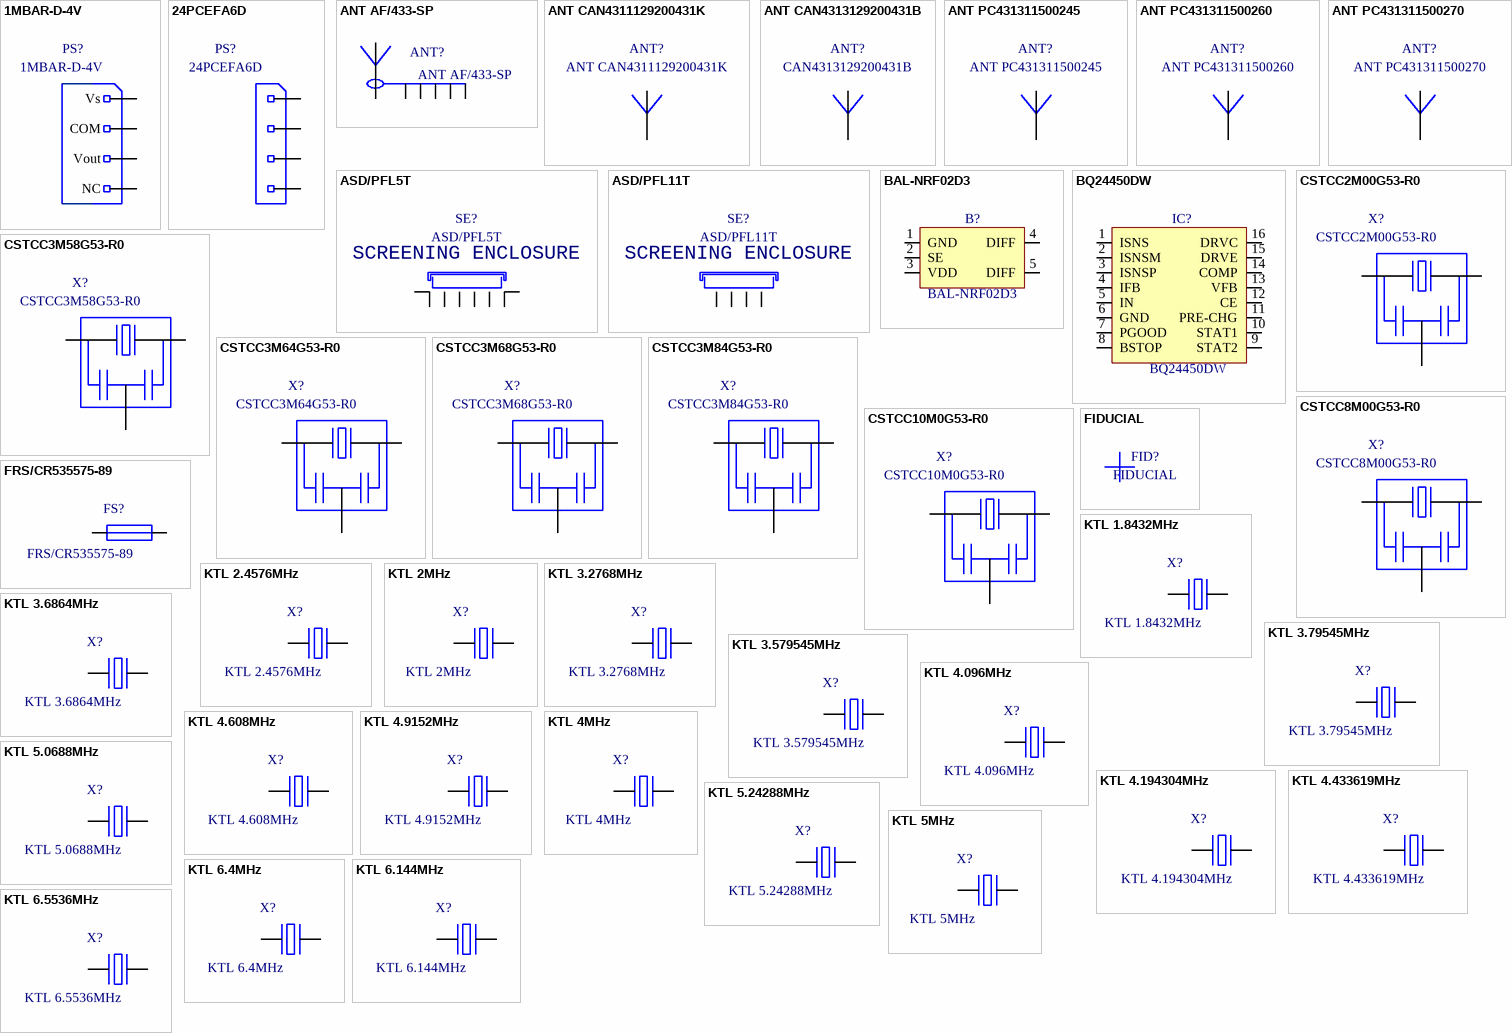
[diagram p133: symbols 1MBAR-D-4V to KTL 6.5536MHz]

## 1MBAR-D-4V
designator PS?
druksensor AllSensors 1MBAR-D-4V
footprint druksensor (AllSensors 1MBAR-D-4V)
pins: 1 Vs, 2 COM, 3 Vout, 4 NC

## 24PCEFA6D
designator PS?
druksensor Honeywell 24PCEFA6D
footprint druksensor (Honeywell 24PCEFA6D)
pins: 1, 2, 3, 4

## ANT AF/433-SP
designator ANT?
antenne, Antenna Factor 433-SP
footprint antenne 433-SP (Antenna Factor)
pins: 1, 2, 3, 4, 5, 6

## ANT CAN4311129200431K
designator ANT?
433MHz Ceramic Chip Antenna
footprint smd antenne (Yageo CAN4311129200431K)
pins: 1

## ANT CAN4313129200431B
designator ANT?, comment CAN4313129200431B
433MHz Ceramic Chip Antenna
footprint smd antenne (Yageo CAN4313129200431B)
pins: 1

## ANT PC431311500245
designator ANT?
2.45 GHz ISM-band antenna for Bluetooth and WLAN, Phycomp
footprint smd antenne 1
pins: 1

## ANT PC431311500260
designator ANT?
2.45 GHz ISM-band antenna for Bluetooth and WLAN, Phycomp; Part Number: ANT PC431311500260; Component Kind: Standard; Component Type: Standard; Designator: ANT PC431311500260; Footprint: smd antenne 1; Library Reference: ANT PC431311500260; Pin Count: 1
footprint smd antenne 1
pins: 1

## ANT PC431311500270
designator ANT?
2.45 GHz ISM-band antenna for Bluetooth and WLAN, Phycomp; Part Number: ANT PC431311500270; Component Kind: Standard; Component Type: Standard; Designator: ANT PC431311500270; Footprint: smd antenne 1; Library Reference: ANT PC431311500270; Pin Count: 1
footprint smd antenne 1
pins: 1

## ASD/PFL5T
designator SE?
afschermdoosje, Perancea Ltd., PFL5T
footprint afschermdoosje PFL5T (Perancea Ltd.)
pins: 1, 2, 3, 4, 5, 6, 7, 8
text: SCREENING ENCLOSURE

## ASD/PFL11T
designator SE?
afschermdoosje, Perancea Ltd., PFL11T
footprint afschermdoosje PFL11T (Perancea Ltd.)
pins: 1, 2, 3, 4
text: SCREENING ENCLOSURE

## BAL-NRF02D3
designator B?
50 ohm nominal input / conjugate match balun to nRF51822-CEAA  and nRF51422-CEAA
footprint smd wlcsp/5
pins: 1 GND, 2 SE, 3 VDD, 4 DIFF, 5 DIFF

## BQ24450DW
designator IC?
INTEGRATED CHARGE CONTROLLER FOR LEAD-ACID BATTERIES
footprint smd soicn/16
pins: 1 ISNS, 2 ISNSM, 3 ISNSP, 4 IFB, 5 IN, 6 GND, 7 PGOOD, 8 BSTOP, 9 STAT2, 10 STAT1, 11 PRE-CHG, 12 CE, 13 VFB, 14 COMP, 15 DRVE, 16 DRVC

## CSTCC2M00G53-R0
designator X?
keramische resonator, Murata, chip 7.2x3mm, 3pin, 2MHz
footprint keramische resonator (Murata chip 3p)
pins: 1, 2, 3

## CSTCC3M58G53-R0
designator X?
keramische resonator, Murata, chip 7.2x3mm, 3pin, 3.58MHz; Part Number: CSTCC3M58G53-R0; Component Kind: Standard; Component Type: Standard; Designator: CSTCC3M58G53-R0; Footprint: keramische resonator (Murata chip 3p); Library Reference: CSTCC3M58G53-R0; Pin Count: 3
footprint keramische resonator (Murata chip 3p)
pins: 1, 2, 3

## CSTCC3M64G53-R0
designator X?
keramische resonator, Murata, chip 7.2x3mm, 3pin, 3.64MHz; Part Number: CSTCC3M64G53-R0; Component Kind: Standard; Component Type: Standard; Designator: CSTCC3M64G53-R0; Footprint: keramische resonator (Murata chip 3p); Library Reference: CSTCC3M64G53-R0; Pin Count: 3
footprint keramische resonator (Murata chip 3p)
pins: 1, 2, 3

## CSTCC3M68G53-R0
designator X?
keramische resonator, Murata, chip 7.2x3mm, 3pin, 3.68MHz; Part Number: CSTCC3M68G53-R0; Component Kind: Standard; Component Type: Standard; Designator: CSTCC3M68G53-R0; Footprint: keramische resonator (Murata chip 3p); Library Reference: CSTCC3M68G53-R0; Pin Count: 3
footprint keramische resonator (Murata chip 3p)
pins: 1, 2, 3

## CSTCC3M84G53-R0
designator X?
keramische resonator, Murata, chip 7.2x3mm, 3pin, 3.84MHz; Part Number: CSTCC3M84G53-R0; Component Kind: Standard; Component Type: Standard; Designator: CSTCC3M84G53-R0; Footprint: keramische resonator (Murata chip 3p); Library Reference: CSTCC3M84G53-R0; Pin Count: 3
footprint keramische resonator (Murata chip 3p)
pins: 1, 2, 3

## CSTCC8M00G53-R0
designator X?
keramische resonator, Murata, chip 7.2x3mm, 3pin, 8MHz; Part Number: CSTCC8M00G53-R0; Component Kind: Standard; Component Type: Standard; Designator: CSTCC8M00G53-R0; Footprint: keramische resonator (Murata chip 3p); Library Reference: CSTCC8M00G53-R0; Pin Count: 3
footprint keramische resonator (Murata chip 3p)
pins: 1, 2, 3

## CSTCC10M0G53-R0
designator X?
keramische resonator, Murata, chip 7.2x3mm, 3pin, 10MHz; Part Number: CSTCC10M0G53-R0; Component Kind: Standard; Component Type: Standard; Designator: CSTCC10M0G53-R0; Footprint: keramische resonator (Murata chip 3p); Library Reference: CSTCC10M0G53-R0; Pin Count: 3
footprint keramische resonator (Murata chip 3p)
pins: 1, 2, 3

## FIDUCIAL
designator FID?
fiducial, bol met assenkruis
footprint fiducial
pins: 1

## FRS/CR535575-89
designator FS?
ferrietstaaf, Conrad 535575-89
footprint ferrietstaaf (Conrad 535575-89)
pins: 1, 2

## KTL 1.8432MHz
designator X?
kristal 1.8432MHz
footprint kristal (.43/.18/.2/90/32)
pins: 1, 2

## KTL 2.4576MHz
designator X?
kristal 2.4576MHz; Part Number: KTL 2.4576MHz; Component Kind: Standard; Component Type: Standard; Designator: KTL 2.4576MHz; Footprint: kristal (.43/.18/.2/90/32); Library Reference: KTL 2.4576MHz; Pin Count: 2
footprint kristal (.43/.18/.2/90/32)
pins: 1, 2

## KTL 2MHz
designator X?
kristal 2MHz; Part Number: KTL 2MHz; Component Kind: Standard; Component Type: Standard; Designator: KTL 2MHz; Footprint: kristal (.43/.18/.2/90/32); Library Reference: KTL 2MHz; Pin Count: 2
footprint kristal (.43/.18/.2/90/32)
pins: 1, 2

## KTL 3.2768MHz
designator X?
kristal 3.2768MHz; Part Number: KTL 3.2768MHz; Component Kind: Standard; Component Type: Standard; Designator: KTL 3.2768MHz; Footprint: kristal (.43/.18/.2/90/32); Library Reference: KTL 3.2768MHz; Pin Count: 2
footprint kristal (.43/.18/.2/90/32)
pins: 1, 2

## KTL 3.6864MHz
designator X?
kristal 3.6864MHz; Part Number: KTL 3.6864MHz; Component Kind: Standard; Component Type: Standard; Designator: KTL 3.6864MHz; Footprint: kristal (.43/.18/.2/90/32); Library Reference: KTL 3.6864MHz; Pin Count: 2
footprint kristal (.43/.18/.2/90/32)
pins: 1, 2

## KTL 3.79545MHz
designator X?
kristal 3.79545MHz; Part Number: KTL 3.79545MHz; Component Kind: Standard; Component Type: Standard; Designator: KTL 3.79545MHz; Footprint: kristal (.43/.18/.2/90/32); Library Reference: KTL 3.79545MHz; Pin Count: 2
footprint kristal (.43/.18/.2/90/32)
pins: 1, 2

## KTL 3.579545MHz
designator X?
kristal 3.579545MHz; Part Number: KTL 3.579545MHz; Component Kind: Standard; Component Type: Standard; Designator: KTL 3.579545MHz; Footprint: kristal (.43/.18/.2/90/32); Library Reference: KTL 3.579545MHz; Pin Count: 2
footprint kristal (.43/.18/.2/90/32)
pins: 1, 2

## KTL 4.096MHz
designator X?
kristal 4.096MHz; Part Number: KTL 4.096MHz; Component Kind: Standard; Component Type: Standard; Designator: KTL 4.096MHz; Footprint: kristal (.43/.18/.2/90/32); Library Reference: KTL 4.096MHz; Pin Count: 2
footprint kristal (.43/.18/.2/90/32)
pins: 1, 2

## KTL 4.608MHz
designator X?
kristal 4.608MHz; Part Number: KTL 4.608MHz; Component Kind: Standard; Component Type: Standard; Designator: KTL 4.608MHz; Footprint: kristal (.43/.18/.2/90/32); Library Reference: KTL 4.608MHz; Pin Count: 2
footprint kristal (.43/.18/.2/90/32)
pins: 1, 2

## KTL 4.9152MHz
designator X?
kristal 4.9152MHz; Part Number: KTL 4.9152MHz; Component Kind: Standard; Component Type: Standard; Designator: KTL 4.9152MHz; Footprint: kristal (.43/.18/.2/90/32); Library Reference: KTL 4.9152MHz; Pin Count: 2
footprint kristal (.43/.18/.2/90/32)
pins: 1, 2

## KTL 4.194304MHz
designator X?
kristal 4.194304MHz; Part Number: KTL 4.194304MHz; Component Kind: Standard; Component Type: Standard; Designator: KTL 4.194304MHz; Footprint: kristal (.43/.18/.2/90/32); Library Reference: KTL 4.194304MHz; Pin Count: 2
footprint kristal (.43/.18/.2/90/32)
pins: 1, 2

## KTL 4.433619MHz
designator X?
kristal 4.433619MHz; Part Number: KTL 4.433619MHz; Component Kind: Standard; Component Type: Standard; Designator: KTL 4.433619MHz; Footprint: kristal (.43/.18/.2/90/32); Library Reference: KTL 4.433619MHz; Pin Count: 2
footprint kristal (.43/.18/.2/90/32)
pins: 1, 2

## KTL 4MHz
designator X?
kristal 4MHz; Part Number: KTL 4MHz; Component Kind: Standard; Component Type: Standard; Designator: KTL 4MHz; Footprint: kristal (.43/.18/.2/90/32); Library Reference: KTL 4MHz; Pin Count: 2
footprint kristal (.43/.18/.2/90/32)
pins: 1, 2

## KTL 5.0688MHz
designator X?
kristal 5.0688MHz; Part Number: KTL 5.0688MHz; Component Kind: Standard; Component Type: Standard; Designator: KTL 5.0688MHz; Footprint: kristal (.43/.18/.2/90/32); Library Reference: KTL 5.0688MHz; Pin Count: 2
footprint kristal (.43/.18/.2/90/32)
pins: 1, 2

## KTL 5.24288MHz
designator X?
kristal 5.24288MHz; Part Number: KTL 5.24288MHz; Component Kind: Standard; Component Type: Standard; Designator: KTL 5.24288MHz; Footprint: kristal (.43/.18/.2/90/32); Library Reference: KTL 5.24288MHz; Pin Count: 2
footprint kristal (.43/.18/.2/90/32)
pins: 1, 2

## KTL 5MHz
designator X?
kristal 5MHz; Part Number: KTL 5MHz; Component Kind: Standard; Component Type: Standard; Designator: KTL 5MHz; Footprint: kristal (.43/.18/.2/90/32); Library Reference: KTL 5MHz; Pin Count: 2
footprint kristal (.43/.18/.2/90/32)
pins: 1, 2

## KTL 6.4MHz
designator X?
kristal 6.4MHz; Part Number: KTL 6.4MHz; Component Kind: Standard; Component Type: Standard; Designator: KTL 6.4MHz; Footprint: kristal (.43/.18/.2/90/32); Library Reference: KTL 6.4MHz; Pin Count: 2
footprint kristal (.43/.18/.2/90/32)
pins: 1, 2

## KTL 6.144MHz
designator X?
kristal 6.144MHz; Part Number: KTL 6.144MHz; Component Kind: Standard; Component Type: Standard; Designator: KTL 6.144MHz; Footprint: kristal (.43/.18/.2/90/32); Library Reference: KTL 6.144MHz; Pin Count: 2
footprint kristal (.43/.18/.2/90/32)
pins: 1, 2

## KTL 6.5536MHz
designator X?
kristal 6.5536MHz; Part Number: KTL 6.5536MHz; Component Kind: Standard; Component Type: Standard; Designator: KTL 6.5536MHz; Footprint: kristal (.43/.18/.2/90/32); Library Reference: KTL 6.5536MHz; Pin Count: 2
footprint kristal (.43/.18/.2/90/32)
pins: 1, 2

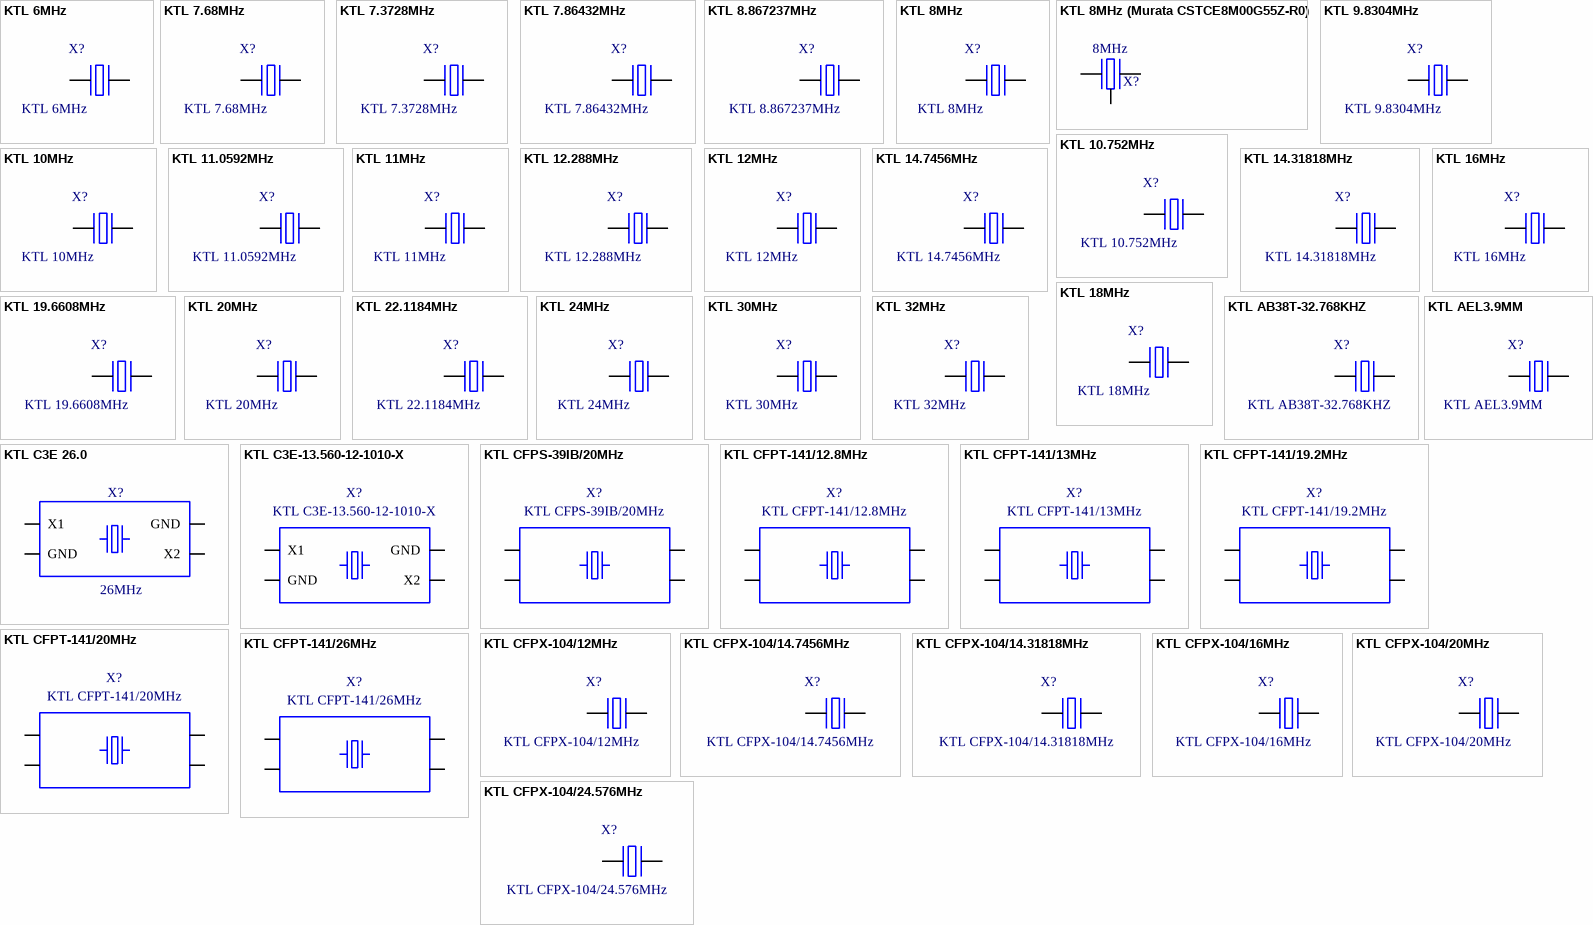
[diagram p134: symbols KTL 6MHz to KTL CFPX-104/24.576MHz]

## KTL 6MHz
designator X?
kristal 6MHz; Part Number: KTL 6MHz; Component Kind: Standard; Component Type: Standard; Designator: KTL 6MHz; Footprint: kristal (.43/.18/.2/90/32); Library Reference: KTL 6MHz; Pin Count: 2
footprint kristal (.43/.18/.2/90/32)
pins: 1, 2

## KTL 7.68MHz
designator X?
kristal 7.68MHz; Part Number: KTL 7.68MHz; Component Kind: Standard; Component Type: Standard; Designator: KTL 7.68MHz; Footprint: kristal (.43/.18/.2/90/32); Library Reference: KTL 7.68MHz; Pin Count: 2
footprint kristal (.43/.18/.2/90/32)
pins: 1, 2

## KTL 7.3728MHz
designator X?
kristal 7.3728MHz; Part Number: KTL 7.3728MHz; Component Kind: Standard; Component Type: Standard; Designator: KTL 7.3728MHz; Footprint: kristal (.43/.18/.2/90/32); Library Reference: KTL 7.3728MHz; Pin Count: 2
footprint kristal (.43/.18/.2/90/32)
pins: 1, 2

## KTL 7.86432MHz
designator X?
kristal 7.86432MHz; Part Number: KTL 7.86432MHz; Component Kind: Standard; Component Type: Standard; Designator: KTL 7.86432MHz; Footprint: kristal (.43/.18/.2/90/32); Library Reference: KTL 7.86432MHz; Pin Count: 2
footprint kristal (.43/.18/.2/90/32)
pins: 1, 2

## KTL 8.867237MHz
designator X?
kristal 8.867237MHz; Part Number: KTL 8.867237MHz; Component Kind: Standard; Component Type: Standard; Designator: KTL 8.867237MHz; Footprint: kristal (.43/.18/.2/90/32); Library Reference: KTL 8.867237MHz; Pin Count: 2
footprint kristal (.43/.18/.2/90/32)
pins: 1, 2

## KTL 8MHz
designator X?
kristal 8MHz; Part Number: KTL 8MHz; Component Kind: Standard; Component Type: Standard; Designator: KTL 8MHz; Footprint: kristal (.43/.18/.2/90/32); Library Reference: KTL 8MHz; Pin Count: 2
footprint kristal (.43/.18/.2/90/32)
pins: 1, 2

## KTL 8MHz (Murata CSTCE8M00G55Z-R0)
designator X?, comment 8MHz
kristal 8MHz; Part Number: KTL 8MHz; Component Kind: Standard; Component Type: Standard; Designator: KTL 8MHz; Footprint: kristal (.43/.18/.2/90/32); Library Reference: KTL 8MHz; Pin Count: 2
footprint smd Xtal(Murata CSTCE_G_A)
pins: 1, 2 GND, 3

## KTL 9.8304MHz
designator X?
kristal 9.8304MHz; Part Number: KTL 9.8304MHz; Component Kind: Standard; Component Type: Standard; Designator: KTL 9.8304MHz; Footprint: kristal (.43/.18/.2/90/32); Library Reference: KTL 9.8304MHz; Pin Count: 2
footprint kristal (.43/.18/.2/90/32)
pins: 1, 2

## KTL 10.752MHz
designator X?
kristal 10.752MHz; Part Number: KTL 10.752MHz; Component Kind: Standard; Component Type: Standard; Designator: KTL 10.752MHz; Footprint: kristal (.43/.18/.2/90/32); Library Reference: KTL 10.752MHz; Pin Count: 2
footprint kristal (.43/.18/.2/90/32)
pins: 1, 2

## KTL 10MHz
designator X?
kristal 10MHz; Part Number: KTL 10MHz; Component Kind: Standard; Component Type: Standard; Designator: KTL 10MHz; Footprint: kristal (.43/.18/.2/90/32); Library Reference: KTL 10MHz; Pin Count: 2
footprint kristal (.43/.18/.2/90/32)
pins: 1, 2

## KTL 11.0592MHz
designator X?
kristal 11.0592MHz; Part Number: KTL 11.0592MHz; Component Kind: Standard; Component Type: Standard; Designator: KTL 11.0592MHz; Footprint: kristal (.43/.18/.2/90/32); Library Reference: KTL 11.0592MHz; Pin Count: 2
footprint kristal (.43/.18/.2/90/32)
pins: 1, 2

## KTL 11MHz
designator X?
kristal 11MHz; Part Number: KTL 11MHz; Component Kind: Standard; Component Type: Standard; Designator: KTL 11MHz; Footprint: kristal (.43/.18/.2/90/32); Library Reference: KTL 11MHz; Pin Count: 2
footprint kristal (.43/.18/.2/90/32)
pins: 1, 2

## KTL 12.288MHz
designator X?
kristal 12.288MHz; Part Number: KTL 12.288MHz; Component Kind: Standard; Component Type: Standard; Designator: KTL 12.288MHz; Footprint: kristal (.43/.18/.2/90/32); Library Reference: KTL 12.288MHz; Pin Count: 2
footprint kristal (.43/.18/.2/90/32)
pins: 1, 2

## KTL 12MHz
designator X?
kristal 12MHz; Part Number: KTL 12MHz; Component Kind: Standard; Component Type: Standard; Designator: KTL 12MHz; Footprint: kristal (.43/.18/.2/90/32); Library Reference: KTL 12MHz; Pin Count: 2
footprint kristal (.43/.18/.2/90/32)
pins: 1, 2

## KTL 14.7456MHz
designator X?
kristal 14.7456MHz; Part Number: KTL 14.7456MHz; Component Kind: Standard; Component Type: Standard; Designator: KTL 14.7456MHz; Footprint: kristal (.43/.18/.2/90/32); Library Reference: KTL 14.7456MHz; Pin Count: 2
footprint kristal (.43/.18/.2/90/32)
pins: 1, 2

## KTL 14.31818MHz
designator X?
kristal 14.31818MHz; Part Number: KTL 14.31818MHz; Component Kind: Standard; Component Type: Standard; Designator: KTL 14.31818MHz; Footprint: kristal (.43/.18/.2/90/32); Library Reference: KTL 14.31818MHz; Pin Count: 2
footprint kristal (.43/.18/.2/90/32)
pins: 1, 2

## KTL 16MHz
designator X?
kristal 16MHz; Part Number: KTL 16MHz; Component Kind: Standard; Component Type: Standard; Designator: KTL 16MHz; Footprint: kristal (.43/.18/.2/90/32); Library Reference: KTL 16MHz; Pin Count: 2
footprint kristal (.43/.18/.2/90/32)
pins: 1, 2

## KTL 18MHz
designator X?
kristal 18MHz; Part Number: KTL 18MHz; Component Kind: Standard; Component Type: Standard; Designator: KTL 18MHz; Footprint: kristal (.43/.18/.2/90/32); Library Reference: KTL 18MHz; Pin Count: 2
footprint kristal (.43/.18/.2/90/32)
pins: 1, 2

## KTL 19.6608MHz
designator X?
kristal 19.6608MHz; Part Number: KTL 19.6608MHz; Component Kind: Standard; Component Type: Standard; Designator: KTL 19.6608MHz; Footprint: kristal (.43/.18/.2/90/32); Library Reference: KTL 19.6608MHz; Pin Count: 2
footprint kristal (.43/.18/.2/90/32)
pins: 1, 2

## KTL 20MHz
designator X?
kristal 20MHz; Part Number: KTL 20MHz; Component Kind: Standard; Component Type: Standard; Designator: KTL 20MHz; Footprint: kristal (.43/.18/.2/90/32); Library Reference: KTL 20MHz; Pin Count: 2
footprint kristal (.43/.18/.2/90/32)
pins: 1, 2

## KTL 22.1184MHz
designator X?
kristal 22.1184MHz; Part Number: KTL 22.1184MHz; Component Kind: Standard; Component Type: Standard; Designator: KTL 22.1184MHz; Footprint: kristal (.43/.18/.2/90/32); Library Reference: KTL 22.1184MHz; Pin Count: 2
footprint kristal (.43/.18/.2/90/32)
pins: 1, 2

## KTL 24MHz
designator X?
kristal 24MHz; Part Number: KTL 24MHz; Component Kind: Standard; Component Type: Standard; Designator: KTL 24MHz; Footprint: kristal (.43/.18/.2/90/32); Library Reference: KTL 24MHz; Pin Count: 2
footprint kristal (.43/.18/.2/90/32)
pins: 1, 2

## KTL 30MHz
designator X?
kristal 30MHz; Part Number: KTL 30MHz; Component Kind: Standard; Component Type: Standard; Designator: KTL 30MHz; Footprint: kristal (.43/.18/.2/90/32); Library Reference: KTL 30MHz; Pin Count: 2
footprint kristal (.43/.18/.2/90/32)
pins: 1, 2

## KTL 32MHz
designator X?
kristal 32MHz; Part Number: KTL 32MHz; Component Kind: Standard; Component Type: Standard; Designator: KTL 32MHz; Footprint: kristal (.43/.18/.2/90/32); Library Reference: KTL 32MHz; Pin Count: 2
footprint kristal (.43/.18/.2/90/32)
pins: 1, 2

## KTL AB38T-32.768KHZ
designator X?
kristal AB38T-32.768KHZ
footprint kristal (AB38T)
pins: 1, 2

## KTL AEL3.9MM
designator X?
kristal AEL, cylindrisch 3.9mm
footprint kristal (AEL 3.9mm)
pins: 1, 2

## KTL C3E 26.0
designator X?, comment 26MHz
AKER - C3E-26.000-12-1010-X
footprint SMD KTL 3.2x2.5 (SMD kristal 3.2x2.5mm)
pins: 1 X1, 2 GND, 3 X2, 4 GND

## KTL C3E-13.560-12-1010-X
designator X?
kristal C3E-13.560-12-1010-X; Part Number: KTL CFPT-141/13MHz; Component Kind: Standard; Component Type: Standard; Designator: KTL CFPT-141/13MHz; Footprint: smd kristal CFPT-141; Library Reference: KTL CFPT-141/13MHz; Pin Count: 4
footprint SMD KTL 3.2x2.5 (SMD kristal 3.2x2.5mm)
pins: 1 X1, 2 GND, 3 X2, 4 GND

## KTL CFPS-39IB/20MHz
designator X?
smd kristaloscillator CFPS-39IB/20MHz
footprint smd kristal CFPS-39
pins: 1 EN, 2 GND, 3 OUT, 4 +VS

## KTL CFPT-141/12.8MHz
designator X?
kristal CFPT-141 12.8MHz
footprint smd kristal CFPT-141
pins: 1 Vcon, 2 GND, 3 Out, 4 +Vs

## KTL CFPT-141/13MHz
designator X?
kristal CFPT-141 13MHz; Part Number: KTL CFPT-141/13MHz; Component Kind: Standard; Component Type: Standard; Designator: KTL CFPT-141/13MHz; Footprint: smd kristal CFPT-141; Library Reference: KTL CFPT-141/13MHz; Pin Count: 4
footprint smd kristal CFPT-141
pins: 1 Vcon, 2 GND, 3 Out, 4 +Vs

## KTL CFPT-141/19.2MHz
designator X?
kristal CFPT-141 19.2MHz; Part Number: KTL CFPT-141/19.2MHz; Component Kind: Standard; Component Type: Standard; Designator: KTL CFPT-141/19.2MHz; Footprint: smd kristal CFPT-141; Library Reference: KTL CFPT-141/19.2MHz; Pin Count: 4
footprint smd kristal CFPT-141
pins: 1 Vcon, 2 GND, 3 Out, 4 +Vs

## KTL CFPT-141/20MHz
designator X?
kristal CFPT-141 20MHz; Part Number: KTL CFPT-141/20MHz; Component Kind: Standard; Component Type: Standard; Designator: KTL CFPT-141/20MHz; Footprint: smd kristal CFPT-141; Library Reference: KTL CFPT-141/20MHz; Pin Count: 4
footprint smd kristal CFPT-141
pins: 1 Vcon, 2 GND, 3 Out, 4 +Vs

## KTL CFPT-141/26MHz
designator X?
kristal CFPT-141 26MHz; Part Number: KTL CFPT-141/26MHz; Component Kind: Standard; Component Type: Standard; Designator: KTL CFPT-141/26MHz; Footprint: smd kristal CFPT-141; Library Reference: KTL CFPT-141/26MHz; Pin Count: 4
footprint smd kristal CFPT-141
pins: 1 Vcon, 2 GND, 3 Out, 4 +Vs

## KTL CFPX-104/12MHz
designator X?
smd kristal CFPX-104/12MHz
footprint smd kristal CFPX-104
pins: 1, 3

## KTL CFPX-104/14.7456MHz
designator X?
smd kristal CFPX-104/14.7456MHz; Part Number: KTL CFPX-104/14.7456MHz; Component Kind: Standard; Component Type: Standard; Designator: KTL CFPX-104/14.7456MHz; Footprint: smd kristal CFPX-104; Library Reference: KTL CFPX-104/14.7456MHz; Pin Count: 2
footprint smd kristal CFPX-104
pins: 1, 3

## KTL CFPX-104/14.31818MHz
designator X?
smd kristal CFPX-104/14.31818MHz; Part Number: KTL CFPX-104/14.31818MHz; Component Kind: Standard; Component Type: Standard; Designator: KTL CFPX-104/14.31818MHz; Footprint: smd kristal CFPX-104; Library Reference: KTL CFPX-104/14.31818MHz; Pin Count: 2
footprint smd kristal CFPX-104
pins: 1, 3

## KTL CFPX-104/16MHz
designator X?
smd kristal CFPX-104/16MHz; Part Number: KTL CFPX-104/16MHz; Component Kind: Standard; Component Type: Standard; Designator: KTL CFPX-104/16MHz; Footprint: smd kristal CFPX-104; Library Reference: KTL CFPX-104/16MHz; Pin Count: 2
footprint smd kristal CFPX-104
pins: 1, 3